# Altium schematic symbol library SCH - ARM CORTEX - STM STM32F410C(8-B)Ux.SchLib: 1 symbol
Pins are listed as number, name and electrical type; pins without a type are passive.

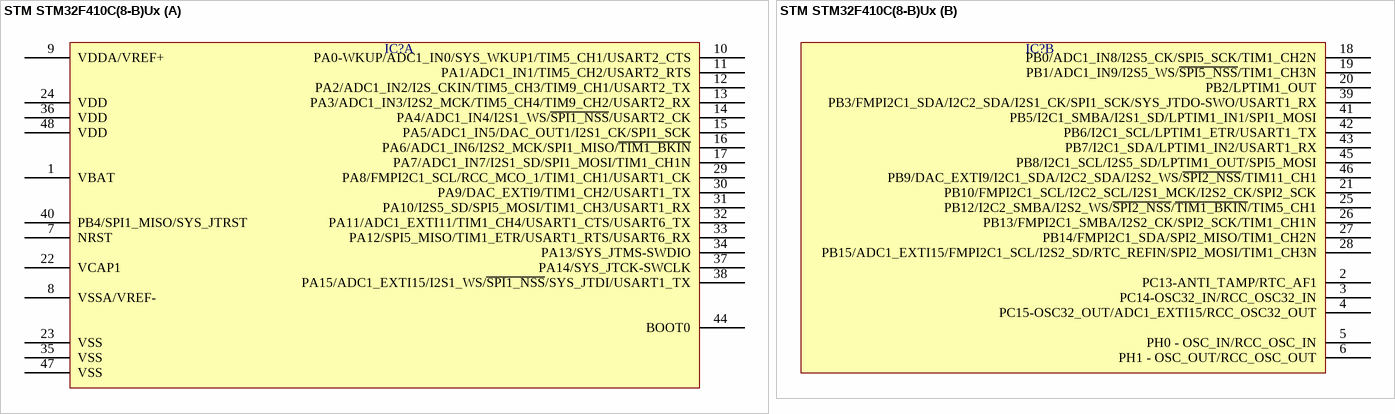
[diagram p0: symbol STM STM32F410C(8-B)Ux]

## STM STM32F410C(8-B)Ux
designator IC?  (value not drawn)
part A pins: 1 VBAT, 7 NRST, 8 VSSA/VREF-, 9 VDDA/VREF+, 10 PA0-WKUP/ADC1_IN0/SYS_WKUP1/TIM5_CH1/USART2_CTS, 11 PA1/ADC1_IN1/TIM5_CH2/USART2_RTS, 12 PA2/ADC1_IN2/I2S_CKIN/TIM5_CH3/TIM9_CH1/USART2_TX, 13 PA3/ADC1_IN3/I2S2_MCK/TIM5_CH4/TIM9_CH2/USART2_RX, 14 PA4/ADC1_IN4/I2S1_WS/~{SPI1_NSS}/USART2_CK, 15 PA5/ADC1_IN5/DAC_OUT1/I2S1_CK/SPI1_SCK, 16 PA6/ADC1_IN6/I2S2_MCK/SPI1_MISO/~{TIM1_BKIN}, 17 PA7/ADC1_IN7/I2S1_SD/SPI1_MOSI/TIM1_CH1N, 22 VCAP1, 23 VSS, 24 VDD, 29 PA8/FMPI2C1_SCL/RCC_MCO_1/TIM1_CH1/USART1_CK, 30 PA9/DAC_EXTI9/TIM1_CH2/USART1_TX, 31 PA10/I2S5_SD/SPI5_MOSI/TIM1_CH3/USART1_RX, 32 PA11/ADC1_EXTI11/TIM1_CH4/USART1_CTS/USART6_TX, 33 PA12/SPI5_MISO/TIM1_ETR/USART1_RTS/USART6_RX, 34 PA13/SYS_JTMS-SWDIO, 35 VSS, 36 VDD, 37 PA14/SYS_JTCK-SWCLK, 38 PA15/ADC1_EXTI15/I2S1_WS/~{SPI1_NSS}/SYS_JTDI/USART1_TX, 40 PB4/SPI1_MISO/SYS_JTRST, 44 BOOT0, 47 VSS, 48 VDD
part B pins: 2 PC13-ANTI_TAMP/RTC_AF1, 3 PC14-OSC32_IN/RCC_OSC32_IN, 4 PC15-OSC32_OUT/ADC1_EXTI15/RCC_OSC32_OUT, 5 PH0 - OSC_IN/RCC_OSC_IN, 6 PH1 - OSC_OUT/RCC_OSC_OUT, 18 PB0/ADC1_IN8/I2S5_CK/SPI5_SCK/TIM1_CH2N, 19 PB1/ADC1_IN9/I2S5_WS/~{SPI5_NSS}/TIM1_CH3N, 20 PB2/LPTIM1_OUT, 21 PB10/FMPI2C1_SCL/I2C2_SCL/I2S1_MCK/I2S2_CK/SPI2_SCK, 25 PB12/I2C2_SMBA/I2S2_WS/~{SPI2_NSS}/~{TIM1_BKIN}/TIM5_CH1, 26 PB13/FMPI2C1_SMBA/I2S2_CK/SPI2_SCK/TIM1_CH1N, 27 PB14/FMPI2C1_SDA/SPI2_MISO/TIM1_CH2N, 28 PB15/ADC1_EXTI15/FMPI2C1_SCL/I2S2_SD/RTC_REFIN/SPI2_MOSI/TIM1_CH3N, 39 PB3/FMPI2C1_SDA/I2C2_SDA/I2S1_CK/SPI1_SCK/SYS_JTDO-SWO/USART1_RX, 41 PB5/I2C1_SMBA/I2S1_SD/LPTIM1_IN1/SPI1_MOSI, 42 PB6/I2C1_SCL/LPTIM1_ETR/USART1_TX, 43 PB7/I2C1_SDA/LPTIM1_IN2/USART1_RX, 45 PB8/I2C1_SCL/I2S5_SD/LPTIM1_OUT/SPI5_MOSI, 46 PB9/DAC_EXTI9/I2C1_SDA/I2C2_SDA/I2S2_WS/~{SPI2_NSS}/TIM11_CH1